# EAGLE library part ADM7154 (library cdp)
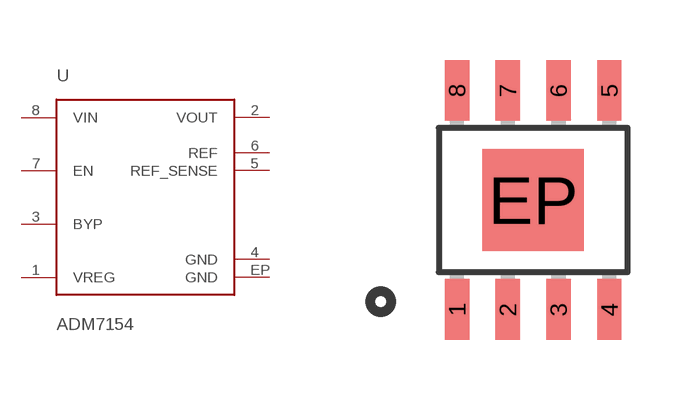
[diagram p33: symbol with the pads of SO8-EP; footprint SO8-EP]

Designator prefix U

## ADM7154  [SO8-EP]
1  VREG
2  VOUT
3  BYP
4  GND
5  REF_SENSE
6  REF
7  EN
8  VIN
EP  GND

## Footprint SO8-EP (pad centres in mm)
smd 0.61 x 1.524: 1 -1.905,-2.743; 2 -0.635,-2.743; 3 0.635,-2.743; 4 1.905,-2.743; 5 1.905,2.743; 6 0.635,2.743; 7 -0.635,2.743; 8 -1.905,2.743
smd 2.54 x 2.54: EP 0,0